# Altium schematic symbol library SFH628.SchLib: 1 symbol
Pins are listed as number, name and electrical type; pins without a type are passive.

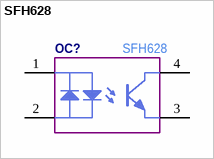
[diagram p0: symbol SFH628]

## SFH628
designator OC?  Manufacturer Part Number: SFH628  (hidden comment: *)
pins: 1, 2, 3, 4